# Altium footprint library WE-UOST.PcbLib: 1 footprints
Each footprint in its own frame and in the unit in brackets; x right, y up, seen from the top. Pads: shape width x height; smd on the part's side, far side on the other; paste and mask are expansions set on the pad; w line width, h text height; cw(c..) or ccw(c..) is an arc to the next point about the centre after c.
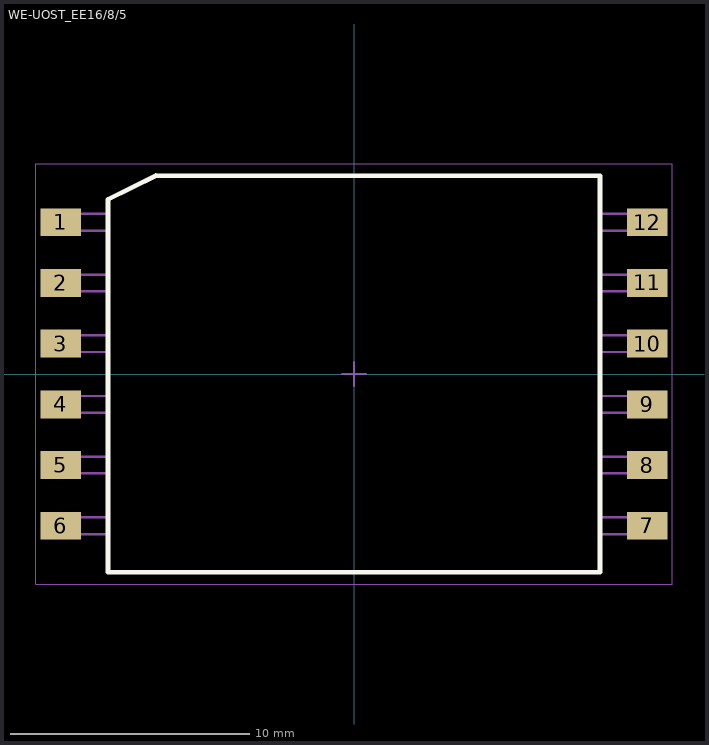
[diagram p0: the footprint, top view; thin cyan lines are the x and y axes]

## WE-UOST_EE16/8/5 [mm] "SMD Transformer, body 25.81x16.6mm"
height 14
pads (12):
  rect 1.7x1.17 smd: 1(-12.265,6.35) 2(-12.265,3.81) 3(-12.265,1.27) 4(-12.265,-1.27) 5(-12.265,-3.81) 6(-12.265,-6.35) 7(12.265,-6.35) 8(12.265,-3.81) 9(12.265,-1.27) 10(12.265,1.27) 11(12.265,3.81) 12(12.265,6.35)
Top Overlay:
  lines w0.2: -8.301,8.301 -10.3,7.3 -10.3,-8.3 10.3,-8.3 10.3,8.3 -8.3,8.3
Top Assembly:
  lines w0.1: -10.3,-6.7 -12.905,-6.7 -12.905,-6 -10.3,-6 ; -10.3,-4.16 -12.905,-4.16 -12.905,-3.46 -10.3,-3.46 ; -10.3,-1.62 -12.905,-1.62 -12.905,-0.92 -10.3,-0.92 ; -10.3,0.92 -12.905,0.92 -12.905,1.62 -10.3,1.62 ; -10.3,3.46 -12.905,3.46 -12.905,4.16 -10.3,4.16 ; -10.3,6 -12.905,6 -12.905,6.7 -10.3,6.7 ; -8.301,8.301 -10.3,7.3 -10.3,-8.3 10.3,-8.3 10.3,8.3 -8.3,8.3 ; 10.3,-6.7 12.905,-6.7 12.905,-6 10.3,-6 ; 10.3,-4.16 12.905,-4.16 12.905,-3.46 10.3,-3.46 ; 10.3,-1.62 12.905,-1.62 12.905,-0.92 10.3,-0.92 ; 10.3,0.92 12.905,0.92 12.905,1.62 10.3,1.62 ; 10.3,3.46 12.905,3.46 12.905,4.16 10.3,4.16 ; 10.3,6 12.905,6 12.905,6.7 10.3,6.7
Top Designator:
  text ".Designator" at -3.647,-0.357 h1
Top Courtyard:
  lines w0.05: -13.315,-8.8 13.315,-8.8 13.315,8.8 -13.315,8.8 -13.315,-8.8
Top Component Center:
  lines w0.1: -0.5,0 0.5,0 ; 0,-0.5 0,0.5
3D body "UtUOST_EE_16_8_5.stp": height 13.5, standoff 0, extent -12.905,-8.3 12.905,8.3